# EAGLE library part WE-HCM_1820_THREE-TURNS (library WE-HCM)
WE-HCM SMT High Current Flat Wire Inductor Shielded Characteristics Lowest core losses (MnZn) High saturation current up to 125 A Extremly low DCR Magnetically shielded Operating temperature: –40 °C to +125 °C Recommended solder profile: Reflow Applications Multiphase switching regulator CPU/RAM power supply Power PC Filter <https://www.we-online.com/components/media/o14798v209%20family-WE-HCM.jpg> Details see: www.we-online.com/en/components/products/WE-HCM <www.we-online.com/catalog/WE-HCM/?utm_source=eagle_model&utm_medium=description_link&utm_campaign=eisos_eagle> Updated by Ella 2024-12-23 2024(C) Würth Elektronik
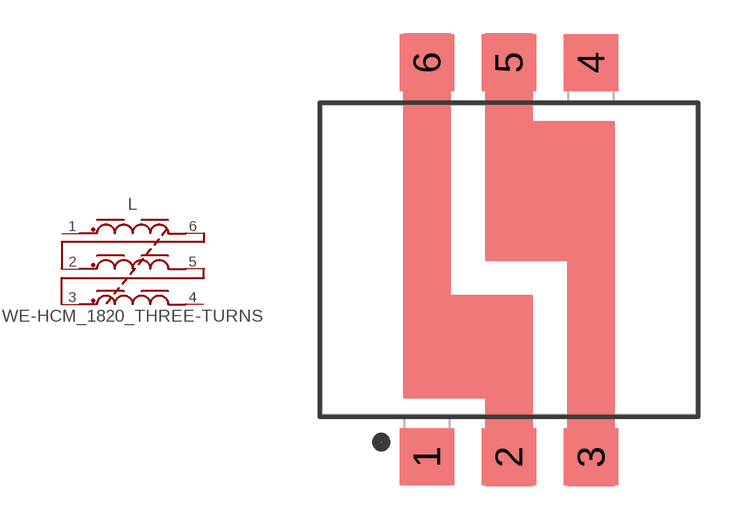
[diagram p0: symbol with the pads of WE-HCM_1820_THREE-TURNS; footprint WE-HCM_1820_THREE-TURNS]

Designator prefix L

## WE-HCM_1820_THREE-TURNS_74431821100 (DATASHEET-URL: https://www.we-online.com/redexpert/spec/74431821100?ae; FRES: 26MHz; HEIGHT: 2mm; IR: 23A; ISAT: 6.6A@10%; ISAT2: 9.3A@30%; L: 1uH; LENGTH: 16.4mm; LR: 0.1uH; MATERIAL: MnZn; MOUNT: SMT; PAD-WIDTH: 3mm; PART-NUMBER: 74431821100; RDC: 0.33mohm; SIZE: 1820; VALUE: 1uH; WIDTH: 13.6mm)  [WE-HCM_1820_THREE-TURNS]
1  1  pas
2  2  pas
3  3  pas
4  4  pas
5  5  pas
6  6  pas

## Footprint WE-HCM_1820_THREE-TURNS (pad centres in mm)
WE-HCM SMD High Current Flat Wire Inductor Size: 1820, SMT, 2Pins LXWXHXFI = 16.4X13.6X2X3mm
smd 2.4 x 2.5: 1 -3.6,-8.65; 2 0,-8.65; 3 3.6,-8.65; 4 3.6,8.65; 5 0,8.65; 6 -3.6,8.65